# EAGLE library part MP45DT02 (library xnemo)
Digital MEMS microphone
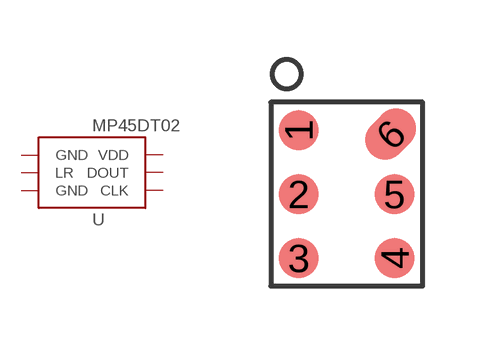
[diagram p14: symbol with the pads of ST_HLGA6; footprint ST_HLGA6]

Designator prefix U

## MP45DT02  [ST_HLGA6]
1  GND
2  LR
3  GND
4  CLK
5  DOUT
6  VDD

## Footprint ST_HLGA6 (pad centres in mm)
smd 1 x 1: 1 -1.2,1.6; 2 -1.2,0; 3 -1.2,-1.6; 4 1.2,-1.6; 5 1.2,0
smd 1 x 1.4 rotated 135: 6 1.1,1.5